# EAGLE library part TRANSISTOR-ARRAYS_THAT340 (library THAT340)
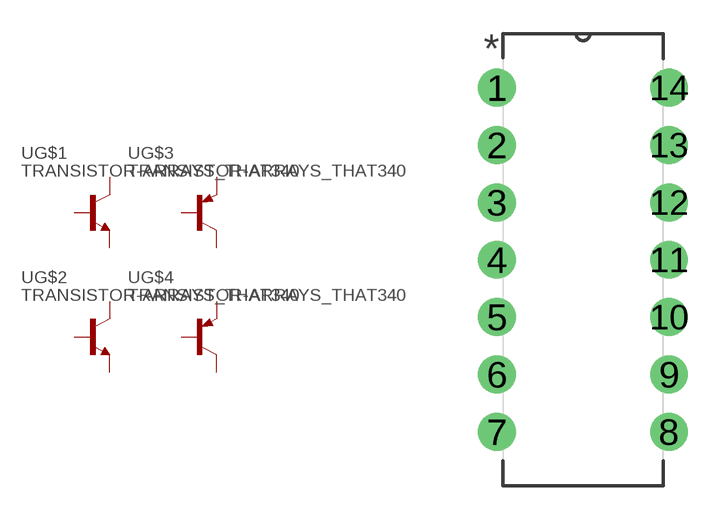
[diagram p0: symbol with the pads of TRANSISTOR-ARRAYS_DIP254P762X510-14; footprint TRANSISTOR-ARRAYS_DIP254P762X510-14]

Designator prefix -; gates G$1=TRANSISTOR-ARRAYS_NPN G$2=TRANSISTOR-ARRAYS_NPN G$3=TRANSISTOR-ARRAYS_PNP G$4=TRANSISTOR-ARRAYS_PNP

## TRANSISTOR-ARRAYS_THAT340  [TRANSISTOR-ARRAYS_DIP254P762X510-14]
1  G$1:C  pas
2  G$1:B  pas
3  G$1:E  pas
5  G$3:E  pas
6  G$3:B  pas
7  G$3:C  pas
8  G$4:C  pas
9  G$4:B  pas
10  G$4:E  pas
12  G$2:E  pas
13  G$2:B  pas
14  G$2:C  pas

## Footprint TRANSISTOR-ARRAYS_DIP254P762X510-14 (pad centres in mm)
drill 1.118: 1 -7.62,15.24; 2 -7.62,12.7; 3 -7.62,10.16; 4 -7.62,7.62; 5 -7.62,5.08; 6 -7.62,2.54; 7 -7.62,0; 8 0,0; 9 0,2.54; 10 0,5.08; 11 0,7.62; 12 0,10.16; 13 0,12.7; 14 0,15.24